# Altium schematic symbol library PinHeader1x10.SchLib: 1 symbol
Pins are listed as number, name and electrical type; pins without a type are passive.

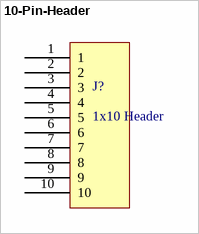
[diagram p0: symbol 10-Pin-Header]

## 10-Pin-Header
designator J?, comment 1x10 Header
Manufacturer Part Number: SSQ-110-03-T-S
footprint PCBComponent_3
pins: 1, 2, 3, 4, 5, 6, 7, 8, 9, 10